# EAGLE library part DF11-16DP (library connectors)
2mm Double-Row Connector
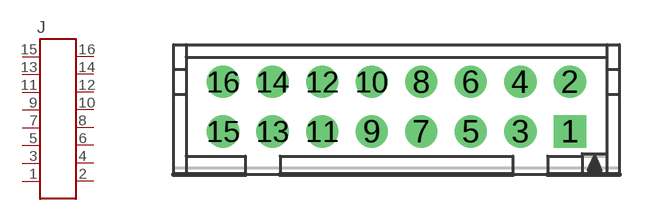
[diagram p4: symbol with the pads of DF11-16DP-2DSA; footprint DF11-16DP-2DSA]

Designator prefix J

## DF11-16DP (MF: Hirose; MPN: DF11-16DP-2DSA(01); REVIEWED: NO; TESTED: NO)  [DF11-16DP-2DSA]
1  1
2  2
3  3
4  4
5  5
6  6
7  7
8  8
9  9
10  10
11  11
12  12
13  13
14  14
15  15
16  16

## Footprint DF11-16DP-2DSA (pad centres in mm)
DF11 Vertical Header, 16circuit
drill 0.8 square: 1 7,-1
drill 0.8: 2 7,1; 3 5,-1; 4 5,1; 5 3,-1; 6 3,1; 7 1,-1; 8 1,1; 9 -1,-1; 10 -1,1; 11 -3,-1; 12 -3,1; 13 -5,-1; 14 -5,1; 15 -7,-1; 16 -7,1